# Altium integrated library Capacitor - Aluminium TH.IntLib: 4591 symbols (part 60 of 68)
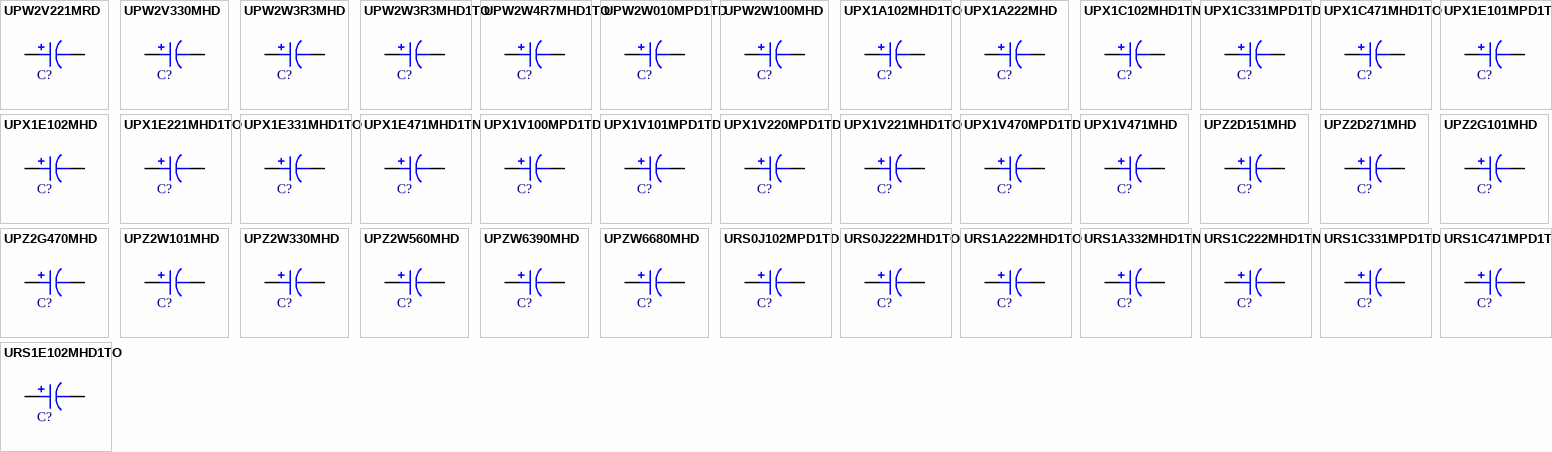
[diagram p173: symbols UPW2V221MRD to URS1E102MHD1TO]

## UPZ2W330MHD
designator C?, comment 33uF  (value not drawn)
CAP ALUM 33UF 20% 450V RADIAL; Part Number: UPZ2W330MHD; Manufacturer: Nichicon; TemperatureRange: -25C ~ 105C; Ripple Current: 280mA; Value: 33uF; PartId: 24367; Supplier 1: Digi-Key; Supplier Part Number 1: 493-11279-ND; ComponentLink1Description: Datasheet; ComponentLink1URL: http://nichicon-us.com/english/products/pdfs/e-upz.pdf; ComponentLink2Description: Digi-Key Listing; ComponentLink2URL: https://www.digikey.com/product-detail/en/nichicon/UPZ2W330MHD/493-11279-ND/4319344; Tolerance: 20%; Voltage: 450V; Price: 1.57; Device Package: Radial, Can, 12.5mm
footprint CAP AL TH D12.5 L5 H35.5
pins: 1, 2

## UPZ2W560MHD
designator C?, comment 56uF  (value not drawn)
CAP ALUM 56UF 20% 450V RADIAL; Part Number: UPZ2W560MHD; Manufacturer: Nichicon; TemperatureRange: -25C ~ 105C; Type: Polar; Ripple Current: 440mA @ 120Hz; Value: 56uF; PartId: 27221; Supplier 1: Digi-Key; Supplier Part Number 1: 493-4730-ND; ComponentLink1Description: Datasheet; ComponentLink1URL: http://nichicon-us.com/english/products/pdfs/e-upz.pdf; ComponentLink2Description: Digi-Key Listing; ComponentLink2URL: https://www.digikey.com/product-detail/en/nichicon/UPZ2W560MHD/493-4730-ND/3125541; Tolerance: 20%; Voltage: 450V; Price: 2.33; Device Package: Radial, Can, 16mm
footprint CAP AL TH D16 L7.5 H33.5
pins: 1, 2

## UPZW6390MHD
designator C?, comment 39uF  (value not drawn)
CAP ALUM 39UF 20% 420V RADIAL; Part Number: UPZW6390MHD; Manufacturer: Nichicon; TemperatureRange: -25C ~ 105C; Type: Polar; Ripple Current: 310mA @ 120Hz; Value: 39uF; PartId: 24399; Supplier 1: Digi-Key; Supplier Part Number 1: 493-4732-ND; ComponentLink1Description: Datasheet; ComponentLink1URL: http://nichicon-us.com/english/products/pdfs/e-upz.pdf; ComponentLink2Description: Digi-Key Listing; ComponentLink2URL: https://www.digikey.com/product-detail/en/nichicon/UPZW6390MHD/493-4732-ND/3125544; Tolerance: 20%; Voltage: 420V; Price: 1.84; Device Package: Radial, Can, 12.5mm
footprint CAP AL TH D12.5 L5 H35.5
pins: 1, 2

## UPZW6680MHD
designator C?, comment 68uF  (value not drawn)
CAP ALUM 68UF 20% 420V RADIAL; Part Number: UPZW6680MHD; Manufacturer: Nichicon; TemperatureRange: -25C ~ 105C; Ripple Current: 510mA; Value: 68uF; PartId: 27213; Supplier 1: Digi-Key; Supplier Part Number 1: 493-11292-ND; ComponentLink1Description: Datasheet; ComponentLink1URL: http://nichicon-us.com/english/products/pdfs/e-upz.pdf; ComponentLink2Description: Digi-Key Listing; ComponentLink2URL: https://www.digikey.com/product-detail/en/nichicon/UPZW6680MHD/493-11292-ND/4319357; Tolerance: 20%; Voltage: 420V; Price: 2.28; Device Package: Radial, Can, 16mm
footprint CAP AL TH D16 L7.5 H33.5
pins: 1, 2

## URS0J102MPD1TD
designator C?, comment 1000uF  (value not drawn)
CAP ALUM 1000UF 20% 6.3V RADIAL; Part Number: URS0J102MPD1TD; Manufacturer: Nichicon; TemperatureRange: -40C ~ 85C; Type: Polar; Ripple Current: 510mA @ 120Hz; Value: 1000uF; PartId: 24435; Supplier 1: Digi-Key; Supplier Part Number 1: 493-11775-3-ND; ComponentLink1Description: Datasheet; ComponentLink1URL: http://nichicon-us.com/english/products/pdfs/e-urs.pdf; ComponentLink2Description: Digi-Key Listing; ComponentLink2URL: https://www.digikey.com/product-detail/en/nichicon/URS0J102MPD1TD/493-11775-3-ND/4320918; Tolerance: 20%; Voltage: 6.3V; Price: 0.1456; Device Package: Radial, Can, 10mm
footprint CAP AL TH D10 L5 H12.5
pins: 1, 2

## URS0J222MHD1TO
designator C?, comment 2200uF  (value not drawn)
CAP ALUM 2200UF 20% 6.3V RADIAL; Part Number: URS0J222MHD1TO; Manufacturer: Nichicon; TemperatureRange: -40C ~ 85C; Type: Polar; Ripple Current: 890mA @ 120Hz; Value: 2200uF; PartId: 22731; Supplier 1: Digi-Key; Supplier Part Number 1: 493-11974-1-ND; ComponentLink1Description: Datasheet; ComponentLink1URL: http://nichicon-us.com/english/products/pdfs/e-urs.pdf; ComponentLink2Description: Digi-Key Listing; ComponentLink2URL: https://www.digikey.com/product-detail/en/nichicon/URS0J222MHD1TO/493-11974-1-ND/4320164; Tolerance: 20%; Voltage: 6.3V; Price: 0; Device Package: Radial, Can, 12.5mm
footprint CAP AL TH D12.5 L5 H16.5
pins: 1, 2

## URS1A222MHD1TO
designator C?, comment 2200uF  (value not drawn)
CAP ALUM 2200UF 20% 10V RADIAL; Part Number: URS1A222MHD1TO; Manufacturer: Nichicon; TemperatureRange: -40C ~ 85C; Type: Polar; Ripple Current: 960mA @ 120Hz; Value: 2200uF; PartId: 22729; Supplier 1: Digi-Key; Supplier Part Number 1: 493-11966-1-ND; ComponentLink1Description: Datasheet; ComponentLink1URL: http://nichicon-us.com/english/products/pdfs/e-urs.pdf; ComponentLink2Description: Digi-Key Listing; ComponentLink2URL: https://www.digikey.com/product-detail/en/nichicon/URS1A222MHD1TO/493-11966-1-ND/4320177; Tolerance: 20%; Voltage: 10V; Price: 0; Device Package: Radial, Can, 12.5mm
footprint CAP AL TH D12.5 L5 H16.5
pins: 1, 2

## URS1A332MHD1TN
designator C?, comment 3300uF  (value not drawn)
CAP ALUM 3300UF 20% 10V RADIAL; Part Number: URS1A332MHD1TN; Manufacturer: Nichicon; TemperatureRange: -40C ~ 85C; Type: Polar; Ripple Current: 1.3A @ 120Hz; Value: 3300uF; PartId: 26231; Supplier 1: Digi-Key; Supplier Part Number 1: 493-12068-3-ND; ComponentLink1Description: Datasheet; ComponentLink1URL: http://nichicon-us.com/english/products/pdfs/e-urs.pdf; ComponentLink2Description: Digi-Key Listing; ComponentLink2URL: https://www.digikey.com/product-detail/en/nichicon/URS1A332MHD1TN/493-12068-3-ND/4321211; Tolerance: 20%; Voltage: 10V; Price: 0.3894; Device Package: Radial, Can, 16mm
footprint CAP AL TH D16 L7.5 H16.5
pins: 1, 2

## URS1C222MHD1TN
designator C?, comment 2200uF  (value not drawn)
CAP ALUM 2200UF 20% 16V RADIAL; Part Number: URS1C222MHD1TN; Manufacturer: Nichicon; TemperatureRange: -40C ~ 85C; Type: Polar; Ripple Current: 1.16A @ 120Hz; Value: 2200uF; PartId: 26236; Supplier 1: Digi-Key; Supplier Part Number 1: 493-12115-3-ND; ComponentLink1Description: Datasheet; ComponentLink1URL: http://nichicon-us.com/english/products/pdfs/e-urs.pdf; ComponentLink2Description: Digi-Key Listing; ComponentLink2URL: https://www.digikey.com/product-detail/en/nichicon/URS1C222MHD1TN/493-12115-3-ND/4321258; Tolerance: 20%; Voltage: 16V; Price: 0.4338; Device Package: Radial, Can, 16mm
footprint CAP AL TH D16 L7.5 H16.5
pins: 1, 2

## URS1C331MPD1TD
designator C?, comment 330uF  (value not drawn)
CAP ALUM 330UF 20% 16V RADIAL; Part Number: URS1C331MPD1TD; Manufacturer: Nichicon; TemperatureRange: -40C ~ 85C; Type: Polar; Ripple Current: 360mA @ 120Hz; Value: 330uF; PartId: 24432; Supplier 1: Digi-Key; Supplier Part Number 1: 493-11676-3-ND; ComponentLink1Description: Datasheet; ComponentLink1URL: http://nichicon-us.com/english/products/pdfs/e-urs.pdf; ComponentLink2Description: Digi-Key Listing; ComponentLink2URL: https://www.digikey.com/product-detail/en/nichicon/URS1C331MPD1TD/493-11676-3-ND/4320819; Tolerance: 20%; Voltage: 16V; Price: 0.1289; Device Package: Radial, Can, 10mm
footprint CAP AL TH D10 L5 H12.5
pins: 1, 2

## URS1C471MPD1TD
designator C?, comment 470uF  (value not drawn)
CAP ALUM 470UF 20% 16V RADIAL; Part Number: URS1C471MPD1TD; Manufacturer: Nichicon; TemperatureRange: -40C ~ 85C; Type: Polar; Ripple Current: 410mA @ 120Hz; Value: 470uF; PartId: 24434; Supplier 1: Digi-Key; Supplier Part Number 1: 493-11709-3-ND; ComponentLink1Description: Datasheet; ComponentLink1URL: http://nichicon-us.com/english/products/pdfs/e-urs.pdf; ComponentLink2Description: Digi-Key Listing; ComponentLink2URL: https://www.digikey.com/product-detail/en/nichicon/URS1C471MPD1TD/493-11709-3-ND/4320852; Tolerance: 20%; Voltage: 16V; Price: 0.1415; Device Package: Radial, Can, 10mm
footprint CAP AL TH D10 L5 H12.5
pins: 1, 2

## URS1E102MHD1TO
designator C?, comment 1000uF  (value not drawn)
CAP ALUM 1000UF 20% 25V RADIAL; Part Number: URS1E102MHD1TO; Manufacturer: Nichicon; TemperatureRange: -40C ~ 85C; Type: Polar; Ripple Current: 830mA @ 120Hz; Value: 1000uF; PartId: 22728; Supplier 1: Digi-Key; Supplier Part Number 1: 493-11967-1-ND; ComponentLink1Description: Datasheet; ComponentLink1URL: http://nichicon-us.com/english/products/pdfs/e-urs.pdf; ComponentLink2Description: Digi-Key Listing; ComponentLink2URL: https://www.digikey.com/product-detail/en/nichicon/URS1E102MHD1TO/493-11967-1-ND/4320200; Tolerance: 20%; Voltage: 25V; Price: 0; Device Package: Radial, Can, 12.5mm
footprint CAP AL TH D12.5 L5 H16.5
pins: 1, 2

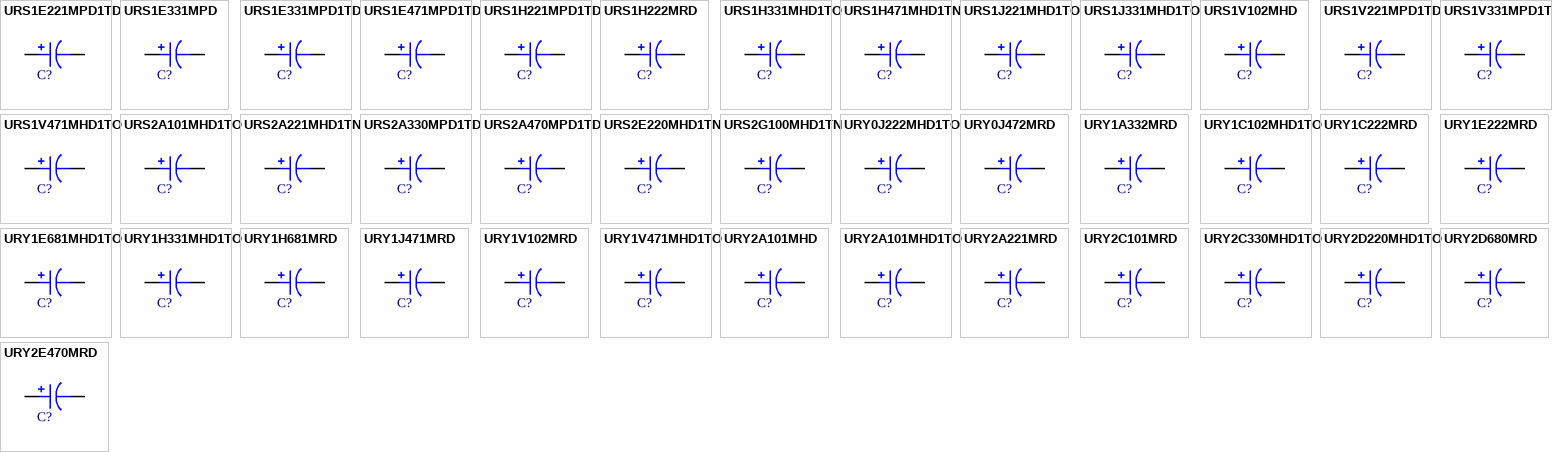
[diagram p100: symbols URS1E221MPD1TD to URY2E470MRD]

## URS1E221MPD1TD
designator C?, comment 220uF  (value not drawn)
CAP ALUM 220UF 20% 25V RADIAL; Part Number: URS1E221MPD1TD; Manufacturer: Nichicon; TemperatureRange: -40C ~ 85C; Type: Polar; Ripple Current: 310mA @ 120Hz; Value: 220uF; PartId: 24433; Supplier 1: Digi-Key; Supplier Part Number 1: 493-11677-3-ND; ComponentLink1Description: Datasheet; ComponentLink1URL: http://nichicon-us.com/english/products/pdfs/e-urs.pdf; ComponentLink2Description: Digi-Key Listing; ComponentLink2URL: https://www.digikey.com/product-detail/en/nichicon/URS1E221MPD1TD/493-11677-3-ND/4320820; Tolerance: 20%; Voltage: 25V; Price: 0.1289; Device Package: Radial, Can, 10mm
footprint CAP AL TH D10 L5 H12.5
pins: 1, 2

## URS1E331MPD
designator C?, comment 330uF  (value not drawn)
CAP ALUM 330UF 20% 25V RADIAL; Part Number: URS1E331MPD; Manufacturer: Nichicon; TemperatureRange: -40C ~ 85C; Type: Polar; Ripple Current: 380mA @ 120Hz; Value: 330uF; PartId: 24451; Supplier 1: Digi-Key; Supplier Part Number 1: URS1E331MPD-ND; ComponentLink1Description: Datasheet; ComponentLink1URL: http://nichicon-us.com/english/products/pdfs/e-urs.pdf; ComponentLink2Description: Digi-Key Listing; ComponentLink2URL: https://www.digikey.com/product-detail/en/nichicon/URS1E331MPD/URS1E331MPD-ND/2428062; Tolerance: 20%; Voltage: 25V; Price: 0.43; Device Package: Radial, Can, 10mm
footprint CAP AL TH D10 L5 H12.5
pins: 1, 2

## URS1E331MPD1TD
designator C?, comment 330uF  (value not drawn)
CAP ALUM 330UF 20% 25V RADIAL; Part Number: URS1E331MPD1TD; Manufacturer: Nichicon; TemperatureRange: -40C ~ 85C; Type: Polar; Ripple Current: 380mA @ 120Hz; Value: 330uF; PartId: 24436; Supplier 1: Digi-Key; Supplier Part Number 1: 493-11781-3-ND; ComponentLink1Description: Datasheet; ComponentLink1URL: http://nichicon-us.com/english/products/pdfs/e-urs.pdf; ComponentLink2Description: Digi-Key Listing; ComponentLink2URL: https://www.digikey.com/product-detail/en/nichicon/URS1E331MPD1TD/493-11781-3-ND/4320924; Tolerance: 20%; Voltage: 25V; Price: 0.1468; Device Package: Radial, Can, 10mm
footprint CAP AL TH D10 L5 H12.5
pins: 1, 2

## URS1E471MPD1TD
designator C?, comment 470uF  (value not drawn)
CAP ALUM 470UF 20% 25V RADIAL; Part Number: URS1E471MPD1TD; Manufacturer: Nichicon; TemperatureRange: -40C ~ 85C; Type: Polar; Ripple Current: 530mA @ 120Hz; Value: 470uF; PartId: 24982; Supplier 1: Digi-Key; Supplier Part Number 1: 493-11841-1-ND; ComponentLink1Description: Datasheet; ComponentLink1URL: http://nichicon-us.com/english/products/pdfs/e-urs.pdf; ComponentLink2Description: Digi-Key Listing; ComponentLink2URL: https://www.digikey.com/product-detail/en/nichicon/URS1E471MPD1TD/493-11841-1-ND/4320208; Tolerance: 20%; Voltage: 25V; Price: 0.54; Device Package: Radial, Can, 10mm
footprint CAP AL TH D10 L5 H14.5
pins: 1, 2

## URS1H221MPD1TD
designator C?, comment 220uF  (value not drawn)
CAP ALUM 220UF 20% 50V RADIAL; Part Number: URS1H221MPD1TD; Manufacturer: Nichicon; TemperatureRange: -40C ~ 85C; Type: Polar; Ripple Current: 420mA @ 120Hz; Value: 220uF; PartId: 24983; Supplier 1: Digi-Key; Supplier Part Number 1: 493-11842-1-ND; ComponentLink1Description: Datasheet; ComponentLink1URL: http://nichicon-us.com/english/products/pdfs/e-urs.pdf; ComponentLink2Description: Digi-Key Listing; ComponentLink2URL: https://www.digikey.com/product-detail/en/nichicon/URS1H221MPD1TD/493-11842-1-ND/4320217; Tolerance: 20%; Voltage: 50V; Price: 0.54; Device Package: Radial, Can, 10mm
footprint CAP AL TH D10 L5 H14.5
pins: 1, 2

## URS1H222MRD
designator C?, comment 2200uF  (value not drawn)
CAP ALUM 2200UF 20% 50V RADIAL; Part Number: URS1H222MRD; Manufacturer: Nichicon; TemperatureRange: -40C ~ 85C; Type: Polar; Ripple Current: 1.75A @ 120Hz; Value: 2200uF; PartId: 27567; Supplier 1: Digi-Key; Supplier Part Number 1: 493-7349-ND; ComponentLink1Description: Datasheet; ComponentLink1URL: http://nichicon-us.com/english/products/pdfs/e-urs.pdf; ComponentLink2Description: Digi-Key Listing; ComponentLink2URL: https://www.digikey.com/product-detail/en/nichicon/URS1H222MRD/493-7349-ND/3768599; Tolerance: 20%; Voltage: 50V; Price: 1.77; Device Package: Radial, Can, 22mm
footprint CAP AL TH D22 L10 H33
pins: 1, 2

## URS1H331MHD1TO
designator C?, comment 330uF  (value not drawn)
CAP ALUM 330UF 20% 50V RADIAL; Part Number: URS1H331MHD1TO; Manufacturer: Nichicon; TemperatureRange: -40C ~ 85C; Type: Polar; Ripple Current: 530mA @ 120Hz; Value: 330uF; PartId: 22684; Supplier 1: Digi-Key; Supplier Part Number 1: 493-11960-1-ND; ComponentLink1Description: Datasheet; ComponentLink1URL: http://nichicon-us.com/english/products/pdfs/e-urs.pdf; ComponentLink2Description: Digi-Key Listing; ComponentLink2URL: https://www.digikey.com/product-detail/en/nichicon/URS1H331MHD1TO/493-11960-1-ND/4320220; Tolerance: 20%; Voltage: 50V; Price: 0; Device Package: Radial, Can, 12.5mm
footprint CAP AL TH D12.5 L5 H14
pins: 1, 2

## URS1H471MHD1TN
designator C?, comment 470uF  (value not drawn)
CAP ALUM 470UF 20% 50V RADIAL; Part Number: URS1H471MHD1TN; Manufacturer: Nichicon; TemperatureRange: -40C ~ 85C; Type: Polar; Ripple Current: 750mA @ 120Hz; Value: 470uF; PartId: 26227; Supplier 1: Digi-Key; Supplier Part Number 1: 493-12004-3-ND; ComponentLink1Description: Datasheet; ComponentLink1URL: http://nichicon-us.com/english/products/pdfs/e-urs.pdf; ComponentLink2Description: Digi-Key Listing; ComponentLink2URL: https://www.digikey.com/product-detail/en/nichicon/URS1H471MHD1TN/493-12004-3-ND/4321147; Tolerance: 20%; Voltage: 50V; Price: 0.3161; Device Package: Radial, Can, 16mm
footprint CAP AL TH D16 L7.5 H16.5
pins: 1, 2

## URS1J221MHD1TO
designator C?, comment 220uF  (value not drawn)
CAP ALUM 220UF 20% 63V RADIAL; Part Number: URS1J221MHD1TO; Manufacturer: Nichicon; TemperatureRange: -40C ~ 85C; Type: Polar; Ripple Current: 490mA @ 120Hz; Value: 220uF; PartId: 22687; Supplier 1: Digi-Key; Supplier Part Number 1: 493-12011-1-ND; ComponentLink1Description: Datasheet; ComponentLink1URL: http://nichicon-us.com/english/products/pdfs/e-urs.pdf; ComponentLink2Description: Digi-Key Listing; ComponentLink2URL: https://www.digikey.com/product-detail/en/nichicon/URS1J221MHD1TO/493-12011-1-ND/4320231; Tolerance: 20%; Voltage: 63V; Price: 0; Device Package: Radial, Can, 12.5mm
footprint CAP AL TH D12.5 L5 H14
pins: 1, 2

## URS1J331MHD1TO
designator C?, comment 330uF  (value not drawn)
CAP ALUM 330UF 20% 63V RADIAL; Part Number: URS1J331MHD1TO; Manufacturer: Nichicon; TemperatureRange: -40C ~ 85C; Type: Polar; Ripple Current: 710mA @ 120Hz; Value: 330uF; PartId: 22755; Supplier 1: Digi-Key; Supplier Part Number 1: 493-12027-1-ND; ComponentLink1Description: Datasheet; ComponentLink1URL: http://nichicon-us.com/english/products/pdfs/e-urs.pdf; ComponentLink2Description: Digi-Key Listing; ComponentLink2URL: https://www.digikey.com/product-detail/en/nichicon/URS1J331MHD1TO/493-12027-1-ND/4320233; Tolerance: 20%; Voltage: 63V; Price: 0; Device Package: Radial, Can, 12.5mm
footprint CAP AL TH D12.5 L5 H16.5
pins: 1, 2

## URS1V102MHD
designator C?, comment 1000uF  (value not drawn)
CAP ALUM 1000UF 20% 35V RADIAL; Part Number: URS1V102MHD; Manufacturer: Nichicon; TemperatureRange: -40C ~ 85C; Type: Polar; Ripple Current: 1.01A @ 120Hz; Value: 1000uF; PartId: 26208; Supplier 1: Digi-Key; Supplier Part Number 1: URS1V102MHD-ND; ComponentLink1Description: Datasheet; ComponentLink1URL: http://nichicon-us.com/english/products/pdfs/e-urs.pdf; ComponentLink2Description: Digi-Key Listing; ComponentLink2URL: https://www.digikey.com/product-detail/en/nichicon/URS1V102MHD/URS1V102MHD-ND/2428061; Tolerance: 20%; Voltage: 35V; Price: 0.79; Device Package: Radial, Can, 16mm
footprint CAP AL TH D16 L7.5 H16.5
pins: 1, 2

## URS1V221MPD1TD
designator C?, comment 220uF  (value not drawn)
CAP ALUM 220UF 20% 35V RADIAL; Part Number: URS1V221MPD1TD; Manufacturer: Nichicon; TemperatureRange: -40C ~ 85C; Type: Polar; Ripple Current: 340mA @ 120Hz; Value: 220uF; PartId: 24437; Supplier 1: Digi-Key; Supplier Part Number 1: 493-11792-3-ND; ComponentLink1Description: Datasheet; ComponentLink1URL: http://nichicon-us.com/english/products/pdfs/e-urs.pdf; ComponentLink2Description: Digi-Key Listing; ComponentLink2URL: https://www.digikey.com/product-detail/en/nichicon/URS1V221MPD1TD/493-11792-3-ND/4320935; Tolerance: 20%; Voltage: 35V; Price: 0.1472; Device Package: Radial, Can, 10mm
footprint CAP AL TH D10 L5 H12.5
pins: 1, 2

## URS1V331MPD1TD
designator C?, comment 330uF  (value not drawn)
CAP ALUM 330UF 20% 35V RADIAL; Part Number: URS1V331MPD1TD; Manufacturer: Nichicon; TemperatureRange: -40C ~ 85C; Type: Polar; Ripple Current: 480mA @ 120Hz; Value: 330uF; PartId: 24984; Supplier 1: Digi-Key; Supplier Part Number 1: 493-11843-1-ND; ComponentLink1Description: Datasheet; ComponentLink1URL: http://nichicon-us.com/english/products/pdfs/e-urs.pdf; ComponentLink2Description: Digi-Key Listing; ComponentLink2URL: https://www.digikey.com/product-detail/en/nichicon/URS1V331MPD1TD/493-11843-1-ND/4320243; Tolerance: 20%; Voltage: 35V; Price: 0.54; Device Package: Radial, Can, 10mm
footprint CAP AL TH D10 L5 H14.5
pins: 1, 2

## URS1V471MHD1TO
designator C?, comment 470uF  (value not drawn)
CAP ALUM 470UF 20% 35V RADIAL; Part Number: URS1V471MHD1TO; Manufacturer: Nichicon; TemperatureRange: -40C ~ 85C; Type: Polar; Ripple Current: 590mA @ 120Hz; Value: 470uF; PartId: 22689; Supplier 1: Digi-Key; Supplier Part Number 1: 493-12064-1-ND; ComponentLink1Description: Datasheet; ComponentLink1URL: http://nichicon-us.com/english/products/pdfs/e-urs.pdf; ComponentLink2Description: Digi-Key Listing; ComponentLink2URL: https://www.digikey.com/product-detail/en/nichicon/URS1V471MHD1TO/493-12064-1-ND/4320245; Tolerance: 20%; Voltage: 35V; Price: 0; Device Package: Radial, Can, 12.5mm
footprint CAP AL TH D12.5 L5 H14
pins: 1, 2

## URS2A101MHD1TO
designator C?, comment 100uF  (value not drawn)
CAP ALUM 100UF 20% 100V RADIAL; Part Number: URS2A101MHD1TO; Manufacturer: Nichicon; TemperatureRange: -40C ~ 85C; Type: Polar; Ripple Current: 250mA @ 120Hz; Value: 100uF; PartId: 22751; Supplier 1: Digi-Key; Supplier Part Number 1: 493-12017-1-ND; ComponentLink1Description: Datasheet; ComponentLink1URL: http://nichicon-us.com/english/products/pdfs/e-urs.pdf; ComponentLink2Description: Digi-Key Listing; ComponentLink2URL: https://www.digikey.com/product-detail/en/nichicon/URS2A101MHD1TO/493-12017-1-ND/4320250; Tolerance: 20%; Voltage: 100V; Price: 0; Device Package: Radial, Can, 12.5mm
footprint CAP AL TH D12.5 L5 H16.5
pins: 1, 2

## URS2A221MHD1TN
designator C?, comment 220uF  (value not drawn)
CAP ALUM 220UF 20% 100V RADIAL; Part Number: URS2A221MHD1TN; Manufacturer: Nichicon; TemperatureRange: -40C ~ 85C; Type: Polar; Ripple Current: 620mA @ 120Hz; Value: 220uF; PartId: 26244; Supplier 1: Digi-Key; Supplier Part Number 1: 493-12163-3-ND; ComponentLink1Description: Datasheet; ComponentLink1URL: http://nichicon-us.com/english/products/pdfs/e-urs.pdf; ComponentLink2Description: Digi-Key Listing; ComponentLink2URL: https://www.digikey.com/product-detail/en/nichicon/URS2A221MHD1TN/493-12163-3-ND/4321306; Tolerance: 20%; Voltage: 100V; Price: 0.5004; Device Package: Radial, Can, 16mm
footprint CAP AL TH D16 L7.5 H16.5
pins: 1, 2

## URS2A330MPD1TD
designator C?, comment 33uF  (value not drawn)
CAP ALUM 33UF 20% 100V RADIAL; Part Number: URS2A330MPD1TD; Manufacturer: Nichicon; TemperatureRange: -40C ~ 85C; Type: Polar; Ripple Current: 180mA @ 120Hz; Value: 33uF; PartId: 24464; Supplier 1: Digi-Key; Supplier Part Number 1: 493-11840-1-ND; ComponentLink1Description: Datasheet; ComponentLink1URL: http://nichicon-us.com/english/products/pdfs/e-urs.pdf; ComponentLink2Description: Digi-Key Listing; ComponentLink2URL: https://www.digikey.com/product-detail/en/nichicon/URS2A330MPD1TD/493-11840-1-ND/4320254; Tolerance: 20%; Voltage: 100V; Price: 0.53; Device Package: Radial, Can, 10mm
footprint CAP AL TH D10 L5 H12.5
pins: 1, 2

## URS2A470MPD1TD
designator C?, comment 47uF  (value not drawn)
CAP ALUM 47UF 20% 100V RADIAL; Part Number: URS2A470MPD1TD; Manufacturer: Nichicon; TemperatureRange: -40C ~ 85C; Type: Polar; Ripple Current: 230mA @ 120Hz; Value: 47uF; PartId: 24735; Supplier 1: Digi-Key; Supplier Part Number 1: 493-11707-1-ND; ComponentLink1Description: Datasheet; ComponentLink1URL: http://nichicon-us.com/english/products/pdfs/e-urs.pdf; ComponentLink2Description: Digi-Key Listing; ComponentLink2URL: https://www.digikey.com/product-detail/en/nichicon/URS2A470MPD1TD/493-11707-1-ND/4320257; Tolerance: 20%; Voltage: 100V; Price: 0.41; Device Package: Radial, Can, 10mm
footprint CAP AL TH D10 L5 H14.5
pins: 1, 2

## URS2E220MHD1TN
designator C?, comment 22uF  (value not drawn)
CAP ALUM 22UF 20% 250V RADIAL; Part Number: URS2E220MHD1TN; Manufacturer: Nichicon; TemperatureRange: -40C ~ 85C; Type: Polar; Ripple Current: 280mA @ 120Hz; Value: 22uF; PartId: 26226; Supplier 1: Digi-Key; Supplier Part Number 1: 493-11984-3-ND; ComponentLink1Description: Datasheet; ComponentLink1URL: http://nichicon-us.com/english/products/pdfs/e-urs.pdf; ComponentLink2Description: Digi-Key Listing; ComponentLink2URL: https://www.digikey.com/product-detail/en/nichicon/URS2E220MHD1TN/493-11984-3-ND/4321127; Tolerance: 20%; Voltage: 250V; Price: 0.2919; Device Package: Radial, Can, 16mm
footprint CAP AL TH D16 L7.5 H16.5
pins: 1, 2

## URS2G100MHD1TN
designator C?, comment 10uF  (value not drawn)
CAP ALUM 10UF 20% 400V RADIAL; Part Number: URS2G100MHD1TN; Manufacturer: Nichicon; TemperatureRange: -40C ~ 85C; Type: Polar; Ripple Current: 140mA @ 120Hz; Value: 10uF; PartId: 26228; Supplier 1: Digi-Key; Supplier Part Number 1: 493-12007-3-ND; ComponentLink1Description: Datasheet; ComponentLink1URL: http://nichicon-us.com/english/products/pdfs/e-urs.pdf; ComponentLink2Description: Digi-Key Listing; ComponentLink2URL: https://www.digikey.com/product-detail/en/nichicon/URS2G100MHD1TN/493-12007-3-ND/4321150; Tolerance: 20%; Voltage: 400V; Price: 0.3198; Device Package: Radial, Can, 16mm
footprint CAP AL TH D16 L7.5 H16.5
pins: 1, 2

## URY0J222MHD1TO
designator C?, comment 2200uF  (value not drawn)
CAP ALUM 2200UF 20% 6.3V RADIAL; Part Number: URY0J222MHD1TO; Manufacturer: Nichicon; TemperatureRange: -55C ~ 105C; Type: Polar; Ripple Current: 580mA @ 120Hz; Value: 2200uF; PartId: 22693; Supplier 1: Digi-Key; Supplier Part Number 1: 493-12119-1-ND; ComponentLink1Description: Datasheet; ComponentLink1URL: http://nichicon-us.com/english/products/pdfs/e-ury.pdf; ComponentLink2Description: Digi-Key Listing; ComponentLink2URL: https://www.digikey.com/product-detail/en/nichicon/URY0J222MHD1TO/493-12119-1-ND/4320309; Tolerance: 20%; Voltage: 6.3V; Price: 0; Device Package: Radial, Can, 12.5mm
footprint CAP AL TH D12.5 L5 H14
pins: 1, 2

## URY0J472MRD
designator C?, comment 4700uF  (value not drawn)
CAP ALUM 4700UF 20% 6.3V RADIAL; Part Number: URY0J472MRD; Manufacturer: Nichicon; TemperatureRange: -55C ~ 105C; Ripple Current: 1.2A; Value: 4700uF; PartId: 27467; Supplier 1: Digi-Key; Supplier Part Number 1: 493-11245-ND; ComponentLink1Description: Datasheet; ComponentLink1URL: http://nichicon-us.com/english/products/pdfs/e-ury.pdf; ComponentLink2Description: Digi-Key Listing; ComponentLink2URL: https://www.digikey.com/product-detail/en/nichicon/URY0J472MRD/493-11245-ND/2538877; Tolerance: 20%; Voltage: 6.3V; Price: 1.9; Device Package: Radial, Can, 25mm
footprint CAP AL TH D25 L12.5 H14.5
pins: 1, 2

## URY1A332MRD
designator C?, comment 3300uF  (value not drawn)
CAP ALUM 3300UF 20% 10V RADIAL; Part Number: URY1A332MRD; Manufacturer: Nichicon; TemperatureRange: -55C ~ 105C; Ripple Current: 1.03A; Value: 3300uF; PartId: 27561; Supplier 1: Digi-Key; Supplier Part Number 1: 493-11246-ND; ComponentLink1Description: Datasheet; ComponentLink1URL: http://nichicon-us.com/english/products/pdfs/e-ury.pdf; ComponentLink2Description: Digi-Key Listing; ComponentLink2URL: https://www.digikey.com/product-detail/en/nichicon/URY1A332MRD/493-11246-ND/2538879; Tolerance: 20%; Voltage: 10V; Price: 1.73; Device Package: Radial, Can, 22mm
footprint CAP AL TH D22 L10 H14.5
pins: 1, 2

## URY1C102MHD1TO
designator C?, comment 1000uF  (value not drawn)
CAP ALUM 1000UF 20% 16V RADIAL; Part Number: URY1C102MHD1TO; Manufacturer: Nichicon; TemperatureRange: -55C ~ 105C; Type: Polar; Ripple Current: 520mA @ 120Hz; Value: 1000uF; PartId: 22699; Supplier 1: Digi-Key; Supplier Part Number 1: 493-12143-1-ND; ComponentLink1Description: Datasheet; ComponentLink1URL: http://nichicon-us.com/english/products/pdfs/e-ury.pdf; ComponentLink2Description: Digi-Key Listing; ComponentLink2URL: https://www.digikey.com/product-detail/en/nichicon/URY1C102MHD1TO/493-12143-1-ND/4320312; Tolerance: 20%; Voltage: 16V; Price: 0; Device Package: Radial, Can, 12.5mm
footprint CAP AL TH D12.5 L5 H14
pins: 1, 2

## URY1C222MRD
designator C?, comment 2200uF  (value not drawn)
CAP ALUM 2200UF 20% 16V RADIAL; Part Number: URY1C222MRD; Manufacturer: Nichicon; TemperatureRange: -55C ~ 105C; Ripple Current: 1A; Value: 2200uF; PartId: 27464; Supplier 1: Digi-Key; Supplier Part Number 1: 493-11247-ND; ComponentLink1Description: Datasheet; ComponentLink1URL: http://nichicon-us.com/english/products/pdfs/e-ury.pdf; ComponentLink2Description: Digi-Key Listing; ComponentLink2URL: https://www.digikey.com/product-detail/en/nichicon/URY1C222MRD/493-11247-ND/2538881; Tolerance: 20%; Voltage: 16V; Price: 1.9; Device Package: Radial, Can, 25mm
footprint CAP AL TH D25 L12.5 H14.5
pins: 1, 2

## URY1E222MRD
designator C?, comment 2200uF  (value not drawn)
CAP ALUM 2200UF 20% 25V RADIAL; Part Number: URY1E222MRD; Manufacturer: Nichicon; TemperatureRange: -55C ~ 105C; Ripple Current: 1.17A; Value: 2200uF; PartId: 27465; Supplier 1: Digi-Key; Supplier Part Number 1: 493-11248-ND; ComponentLink1Description: Datasheet; ComponentLink1URL: http://nichicon-us.com/english/products/pdfs/e-ury.pdf; ComponentLink2Description: Digi-Key Listing; ComponentLink2URL: https://www.digikey.com/product-detail/en/nichicon/URY1E222MRD/493-11248-ND/2538883; Tolerance: 20%; Voltage: 25V; Price: 2; Device Package: Radial, Can, 25mm
footprint CAP AL TH D25 L12.5 H14.5
pins: 1, 2

## URY1E681MHD1TO
designator C?, comment 680uF  (value not drawn)
CAP ALUM 680UF 20% 25V RADIAL; Part Number: URY1E681MHD1TO; Manufacturer: Nichicon; TemperatureRange: -55C ~ 105C; Type: Polar; Ripple Current: 500mA @ 120Hz; Value: 680uF; PartId: 22695; Supplier 1: Digi-Key; Supplier Part Number 1: 493-12120-1-ND; ComponentLink1Description: Datasheet; ComponentLink1URL: http://nichicon-us.com/english/products/pdfs/e-ury.pdf; ComponentLink2Description: Digi-Key Listing; ComponentLink2URL: https://www.digikey.com/product-detail/en/nichicon/URY1E681MHD1TO/493-12120-1-ND/4320314; Tolerance: 20%; Voltage: 25V; Price: 0; Device Package: Radial, Can, 12.5mm
footprint CAP AL TH D12.5 L5 H14
pins: 1, 2

## URY1H331MHD1TO
designator C?, comment 330uF  (value not drawn)
CAP ALUM 330UF 20% 50V RADIAL; Part Number: URY1H331MHD1TO; Manufacturer: Nichicon; TemperatureRange: -55C ~ 105C; Type: Polar; Ripple Current: 450mA @ 120Hz; Value: 330uF; PartId: 22698; Supplier 1: Digi-Key; Supplier Part Number 1: 493-12144-1-ND; ComponentLink1Description: Datasheet; ComponentLink1URL: http://nichicon-us.com/english/products/pdfs/e-ury.pdf; ComponentLink2Description: Digi-Key Listing; ComponentLink2URL: https://www.digikey.com/product-detail/en/nichicon/URY1H331MHD1TO/493-12144-1-ND/4320315; Tolerance: 20%; Voltage: 50V; Price: 0; Device Package: Radial, Can, 12.5mm
footprint CAP AL TH D12.5 L5 H14
pins: 1, 2

## URY1H681MRD
designator C?, comment 680uF  (value not drawn)
CAP ALUM 680UF 20% 50V RADIAL; Part Number: URY1H681MRD; Manufacturer: Nichicon; TemperatureRange: -55C ~ 105C; Ripple Current: 700mA; Value: 680uF; PartId: 27468; Supplier 1: Digi-Key; Supplier Part Number 1: 493-11250-ND; ComponentLink1Description: Datasheet; ComponentLink1URL: http://nichicon-us.com/english/products/pdfs/e-ury.pdf; ComponentLink2Description: Digi-Key Listing; ComponentLink2URL: https://www.digikey.com/product-detail/en/nichicon/URY1H681MRD/493-11250-ND/2538887; Tolerance: 20%; Voltage: 50V; Price: 1.9; Device Package: Radial, Can, 25mm
footprint CAP AL TH D25 L12.5 H14.5
pins: 1, 2

## URY1J471MRD
designator C?, comment 470uF  (value not drawn)
CAP ALUM 470UF 20% 63V RADIAL; Part Number: URY1J471MRD; Manufacturer: Nichicon; TemperatureRange: -55C ~ 105C; Ripple Current: 610mA; Value: 470uF; PartId: 27559; Supplier 1: Digi-Key; Supplier Part Number 1: 493-11251-ND; ComponentLink1Description: Datasheet; ComponentLink1URL: http://nichicon-us.com/english/products/pdfs/e-ury.pdf; ComponentLink2Description: Digi-Key Listing; ComponentLink2URL: https://www.digikey.com/product-detail/en/nichicon/URY1J471MRD/493-11251-ND/2538890; Tolerance: 20%; Voltage: 63V; Price: 1.81; Device Package: Radial, Can, 22mm
footprint CAP AL TH D22 L10 H14.5
pins: 1, 2

## URY1V102MRD
designator C?, comment 1000uF  (value not drawn)
CAP ALUM 1000UF 20% 35V RADIAL; Part Number: URY1V102MRD; Manufacturer: Nichicon; TemperatureRange: -55C ~ 105C; Ripple Current: 810mA; Value: 1000uF; PartId: 27560; Supplier 1: Digi-Key; Supplier Part Number 1: 493-11252-ND; ComponentLink1Description: Datasheet; ComponentLink1URL: http://nichicon-us.com/english/products/pdfs/e-ury.pdf; ComponentLink2Description: Digi-Key Listing; ComponentLink2URL: https://www.digikey.com/product-detail/en/nichicon/URY1V102MRD/493-11252-ND/2538891; Tolerance: 20%; Voltage: 35V; Price: 1.94; Device Package: Radial, Can, 22mm
footprint CAP AL TH D22 L10 H14.5
pins: 1, 2

## URY1V471MHD1TO
designator C?, comment 470uF  (value not drawn)
CAP ALUM 470UF 20% 35V RADIAL; Part Number: URY1V471MHD1TO; Manufacturer: Nichicon; TemperatureRange: -55C ~ 105C; Type: Polar; Ripple Current: 420mA @ 120Hz; Value: 470uF; PartId: 22694; Supplier 1: Digi-Key; Supplier Part Number 1: 493-12121-1-ND; ComponentLink1Description: Datasheet; ComponentLink1URL: http://nichicon-us.com/english/products/pdfs/e-ury.pdf; ComponentLink2Description: Digi-Key Listing; ComponentLink2URL: https://www.digikey.com/product-detail/en/nichicon/URY1V471MHD1TO/493-12121-1-ND/4320318; Tolerance: 20%; Voltage: 35V; Price: 0; Device Package: Radial, Can, 12.5mm
footprint CAP AL TH D12.5 L5 H14
pins: 1, 2

## URY2A101MHD
designator C?, comment 100uF  (value not drawn)
CAP ALUM 100UF 20% 100V RADIAL; Part Number: URY2A101MHD; Manufacturer: Nichicon; TemperatureRange: -55C ~ 105C; Type: Polar; Ripple Current: 230mA @ 120Hz; Value: 100uF; PartId: 22691; Supplier 1: Digi-Key; Supplier Part Number 1: 493-14508-ND; ComponentLink1Description: Datasheet; ComponentLink1URL: http://nichicon-us.com/english/products/pdfs/e-ury.pdf; ComponentLink2Description: Digi-Key Listing; ComponentLink2URL: https://www.digikey.com/product-detail/en/nichicon/URY2A101MHD/493-14508-ND/2538894; Tolerance: 20%; Voltage: 100V; Price: 0; Device Package: Radial, Can, 12.5mm
footprint CAP AL TH D12.5 L5 H14
pins: 1, 2

## URY2A101MHD1TO
designator C?, comment 100uF  (value not drawn)
CAP ALUM 100UF 20% 100V RADIAL; Part Number: URY2A101MHD1TO; Manufacturer: Nichicon; TemperatureRange: -55C ~ 105C; Type: Polar; Ripple Current: 230mA @ 120Hz; Value: 100uF; PartId: 22697; Supplier 1: Digi-Key; Supplier Part Number 1: 493-12135-1-ND; ComponentLink1Description: Datasheet; ComponentLink1URL: http://nichicon-us.com/english/products/pdfs/e-ury.pdf; ComponentLink2Description: Digi-Key Listing; ComponentLink2URL: https://www.digikey.com/product-detail/en/nichicon/URY2A101MHD1TO/493-12135-1-ND/4320320; Tolerance: 20%; Voltage: 100V; Price: 0; Device Package: Radial, Can, 12.5mm
footprint CAP AL TH D12.5 L5 H14
pins: 1, 2

## URY2A221MRD
designator C?, comment 220uF  (value not drawn)
CAP ALUM 220UF 20% 100V RADIAL; Part Number: URY2A221MRD; Manufacturer: Nichicon; TemperatureRange: -55C ~ 105C; Ripple Current: 400mA; Value: 220uF; PartId: 27558; Supplier 1: Digi-Key; Supplier Part Number 1: 493-11284-ND; ComponentLink1Description: Datasheet; ComponentLink1URL: http://nichicon-us.com/english/products/pdfs/e-ury.pdf; ComponentLink2Description: Digi-Key Listing; ComponentLink2URL: https://www.digikey.com/product-detail/en/nichicon/URY2A221MRD/493-11284-ND/4319349; Tolerance: 20%; Voltage: 100V; Price: 1.81; Device Package: Radial, Can, 22mm
footprint CAP AL TH D22 L10 H14.5
pins: 1, 2

## URY2C101MRD
designator C?, comment 100uF  (value not drawn)
CAP ALUM 100UF 20% 160V RADIAL; Part Number: URY2C101MRD; Manufacturer: Nichicon; TemperatureRange: -40C ~ 105C; Ripple Current: 360mA; Value: 100uF; PartId: 27463; Supplier 1: Digi-Key; Supplier Part Number 1: 493-11253-ND; ComponentLink1Description: Datasheet; ComponentLink1URL: http://nichicon-us.com/english/products/pdfs/e-ury.pdf; ComponentLink2Description: Digi-Key Listing; ComponentLink2URL: https://www.digikey.com/product-detail/en/nichicon/URY2C101MRD/493-11253-ND/2538895; Tolerance: 20%; Voltage: 160V; Price: 1.9; Device Package: Radial, Can, 25mm
footprint CAP AL TH D25 L12.5 H14.5
pins: 1, 2

## URY2C330MHD1TO
designator C?, comment 33uF  (value not drawn)
CAP ALUM 33UF 20% 160V RADIAL; Part Number: URY2C330MHD1TO; Manufacturer: Nichicon; TemperatureRange: -40C ~ 105C; Type: Polar; Ripple Current: 130mA @ 120Hz; Value: 33uF; PartId: 22696; Supplier 1: Digi-Key; Supplier Part Number 1: 493-12129-1-ND; ComponentLink1Description: Datasheet; ComponentLink1URL: http://nichicon-us.com/english/products/pdfs/e-ury.pdf; ComponentLink2Description: Digi-Key Listing; ComponentLink2URL: https://www.digikey.com/product-detail/en/nichicon/URY2C330MHD1TO/493-12129-1-ND/4320321; Tolerance: 20%; Voltage: 160V; Price: 0; Device Package: Radial, Can, 12.5mm
footprint CAP AL TH D12.5 L5 H14
pins: 1, 2

## URY2D220MHD1TO
designator C?, comment 22uF  (value not drawn)
CAP ALUM 22UF 20% 200V RADIAL; Part Number: URY2D220MHD1TO; Manufacturer: Nichicon; TemperatureRange: -40C ~ 105C; Type: Polar; Ripple Current: 110mA @ 120Hz; Value: 22uF; PartId: 22700; Supplier 1: Digi-Key; Supplier Part Number 1: 493-12145-1-ND; ComponentLink1Description: Datasheet; ComponentLink1URL: http://nichicon-us.com/english/products/pdfs/e-ury.pdf; ComponentLink2Description: Digi-Key Listing; ComponentLink2URL: https://www.digikey.com/product-detail/en/nichicon/URY2D220MHD1TO/493-12145-1-ND/4320323; Tolerance: 20%; Voltage: 200V; Price: 0; Device Package: Radial, Can, 12.5mm
footprint CAP AL TH D12.5 L5 H14
pins: 1, 2

## URY2D680MRD
designator C?, comment 68uF  (value not drawn)
CAP ALUM 68UF 20% 200V RADIAL; Part Number: URY2D680MRD; Manufacturer: Nichicon; TemperatureRange: -40C ~ 105C; Ripple Current: 310mA; Value: 68uF; PartId: 27469; Supplier 1: Digi-Key; Supplier Part Number 1: 493-11254-ND; ComponentLink1Description: Datasheet; ComponentLink1URL: http://nichicon-us.com/english/products/pdfs/e-ury.pdf; ComponentLink2Description: Digi-Key Listing; ComponentLink2URL: https://www.digikey.com/product-detail/en/nichicon/URY2D680MRD/493-11254-ND/2538900; Tolerance: 20%; Voltage: 200V; Price: 1.9; Device Package: Radial, Can, 25mm
footprint CAP AL TH D25 L12.5 H14.5
pins: 1, 2

## URY2E470MRD
designator C?, comment 47uF  (value not drawn)
CAP ALUM 47UF 20% 250V RADIAL; Part Number: URY2E470MRD; Manufacturer: Nichicon; TemperatureRange: -40C ~ 105C; Ripple Current: 190mA; Value: 47uF; PartId: 27562; Supplier 1: Digi-Key; Supplier Part Number 1: 493-11255-ND; ComponentLink1Description: Datasheet; ComponentLink1URL: http://nichicon-us.com/english/products/pdfs/e-ury.pdf; ComponentLink2Description: Digi-Key Listing; ComponentLink2URL: https://www.digikey.com/product-detail/en/nichicon/URY2E470MRD/493-11255-ND/2538903; Tolerance: 20%; Voltage: 250V; Price: 1.73; Device Package: Radial, Can, 22mm
footprint CAP AL TH D22 L10 H14.5
pins: 1, 2

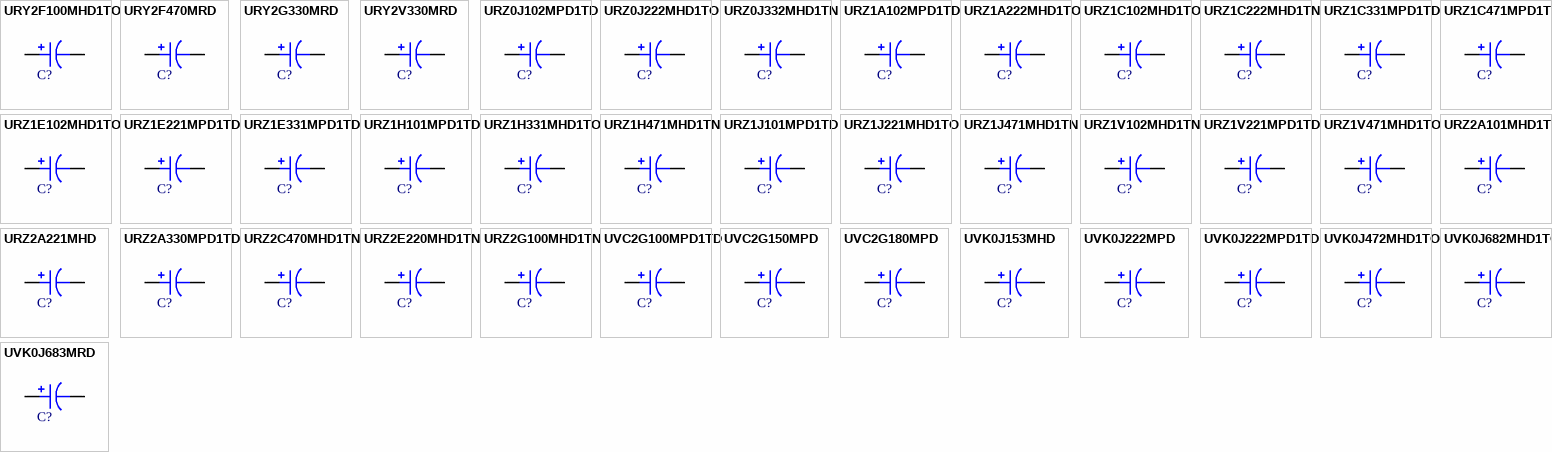
[diagram p101: symbols URY2F100MHD1TO to UVK0J683MRD]

## URY2F100MHD1TO
designator C?, comment 10uF  (value not drawn)
CAP ALUM 10UF 20% 315V RADIAL; Part Number: URY2F100MHD1TO; Manufacturer: Nichicon; TemperatureRange: -40C ~ 105C; Type: Polar; Ripple Current: 70mA @ 120Hz; Value: 10uF; PartId: 22692; Supplier 1: Digi-Key; Supplier Part Number 1: 493-12122-1-ND; ComponentLink1Description: Datasheet; ComponentLink1URL: http://nichicon-us.com/english/products/pdfs/e-ury.pdf; ComponentLink2Description: Digi-Key Listing; ComponentLink2URL: https://www.digikey.com/product-detail/en/nichicon/URY2F100MHD1TO/493-12122-1-ND/4320328; Tolerance: 20%; Voltage: 315V; Price: 0; Device Package: Radial, Can, 12.5mm
footprint CAP AL TH D12.5 L5 H14
pins: 1, 2

## URY2F470MRD
designator C?, comment 47uF  (value not drawn)
CAP ALUM 47UF 20% 315V RADIAL; Part Number: URY2F470MRD; Manufacturer: Nichicon; TemperatureRange: -40C ~ 105C; Ripple Current: 160mA; Value: 47uF; PartId: 27470; Supplier 1: Digi-Key; Supplier Part Number 1: 493-11257-ND; ComponentLink1Description: Datasheet; ComponentLink1URL: http://nichicon-us.com/english/products/pdfs/e-ury.pdf; ComponentLink2Description: Digi-Key Listing; ComponentLink2URL: https://www.digikey.com/product-detail/en/nichicon/URY2F470MRD/493-11257-ND/2538907; Tolerance: 20%; Voltage: 315V; Price: 1.9; Device Package: Radial, Can, 25mm
footprint CAP AL TH D25 L12.5 H14.5
pins: 1, 2

## URY2G330MRD
designator C?, comment 33uF  (value not drawn)
CAP ALUM 33UF 20% 400V RADIAL; Part Number: URY2G330MRD; Manufacturer: Nichicon; TemperatureRange: -40C ~ 105C; Ripple Current: 200mA; Value: 33uF; PartId: 27466; Supplier 1: Digi-Key; Supplier Part Number 1: 493-11259-ND; ComponentLink1Description: Datasheet; ComponentLink1URL: http://nichicon-us.com/english/products/pdfs/e-ury.pdf; ComponentLink2Description: Digi-Key Listing; ComponentLink2URL: https://www.digikey.com/product-detail/en/nichicon/URY2G330MRD/493-11259-ND/2538910; Tolerance: 20%; Voltage: 400V; Price: 2.42; Device Package: Radial, Can, 25mm
footprint CAP AL TH D25 L12.5 H14.5
pins: 1, 2

## URY2V330MRD
designator C?, comment 33uF  (value not drawn)
CAP ALUM 33UF 20% 350V RADIAL; Part Number: URY2V330MRD; Manufacturer: Nichicon; TemperatureRange: -40C ~ 105C; Ripple Current: 140mA; Value: 33uF; PartId: 27462; Supplier 1: Digi-Key; Supplier Part Number 1: 493-11260-ND; ComponentLink1Description: Datasheet; ComponentLink1URL: http://nichicon-us.com/english/products/pdfs/e-ury.pdf; ComponentLink2Description: Digi-Key Listing; ComponentLink2URL: https://www.digikey.com/product-detail/en/nichicon/URY2V330MRD/493-11260-ND/2538913; Tolerance: 20%; Voltage: 350V; Price: 1.9; Device Package: Radial, Can, 25mm
footprint CAP AL TH D25 L12.5 H14.5
pins: 1, 2

## URZ0J102MPD1TD
designator C?, comment 1000uF  (value not drawn)
CAP ALUM 1000UF 20% 6.3V RADIAL; Part Number: URZ0J102MPD1TD; Manufacturer: Nichicon; TemperatureRange: -55C ~ 105C; Type: Polar; Ripple Current: 370mA @ 120Hz; Value: 1000uF; PartId: 24446; Supplier 1: Digi-Key; Supplier Part Number 1: 493-11940-3-ND; ComponentLink1Description: Datasheet; ComponentLink1URL: http://nichicon-us.com/english/products/pdfs/e-urz.pdf; ComponentLink2Description: Digi-Key Listing; ComponentLink2URL: https://www.digikey.com/product-detail/en/nichicon/URZ0J102MPD1TD/493-11940-3-ND/4321083; Tolerance: 20%; Voltage: 6.3V; Price: 0.2144; Device Package: Radial, Can, 10mm
footprint CAP AL TH D10 L5 H12.5
pins: 1, 2

## URZ0J222MHD1TO
designator C?, comment 2200uF  (value not drawn)
CAP ALUM 2200UF 20% 6.3V RADIAL; Part Number: URZ0J222MHD1TO; Manufacturer: Nichicon; TemperatureRange: -55C ~ 105C; Type: Polar; Ripple Current: 635mA @ 120Hz; Value: 2200uF; PartId: 22757; Supplier 1: Digi-Key; Supplier Part Number 1: 493-12032-1-ND; ComponentLink1Description: Datasheet; ComponentLink1URL: http://nichicon-us.com/english/products/pdfs/e-urz.pdf; ComponentLink2Description: Digi-Key Listing; ComponentLink2URL: https://www.digikey.com/product-detail/en/nichicon/URZ0J222MHD1TO/493-12032-1-ND/4320338; Tolerance: 20%; Voltage: 6.3V; Price: 0; Device Package: Radial, Can, 12.5mm
footprint CAP AL TH D12.5 L5 H16.5
pins: 1, 2

## URZ0J332MHD1TN
designator C?, comment 3300uF  (value not drawn)
CAP ALUM 3300UF 20% 6.3V RADIAL; Part Number: URZ0J332MHD1TN; Manufacturer: Nichicon; TemperatureRange: -55C ~ 105C; Type: Polar; Ripple Current: 860mA @ 120Hz; Value: 3300uF; PartId: 26232; Supplier 1: Digi-Key; Supplier Part Number 1: 493-12072-3-ND; ComponentLink1Description: Datasheet; ComponentLink1URL: http://nichicon-us.com/english/products/pdfs/e-urz.pdf; ComponentLink2Description: Digi-Key Listing; ComponentLink2URL: https://www.digikey.com/product-detail/en/nichicon/URZ0J332MHD1TN/493-12072-3-ND/4321215; Tolerance: 20%; Voltage: 6.3V; Price: 0.3914; Device Package: Radial, Can, 16mm
footprint CAP AL TH D16 L7.5 H16.5
pins: 1, 2

## URZ1A102MPD1TD
designator C?, comment 1000uF  (value not drawn)
CAP ALUM 1000UF 20% 10V RADIAL; Part Number: URZ1A102MPD1TD; Manufacturer: Nichicon; TemperatureRange: -55C ~ 105C; Type: Polar; Ripple Current: 450mA @ 120Hz; Value: 1000uF; PartId: 24625; Supplier 1: Digi-Key; Supplier Part Number 1: 493-11938-3-ND; ComponentLink1Description: Datasheet; ComponentLink1URL: http://nichicon-us.com/english/products/pdfs/e-urz.pdf; ComponentLink2Description: Digi-Key Listing; ComponentLink2URL: https://www.digikey.com/product-detail/en/nichicon/URZ1A102MPD1TD/493-11938-3-ND/4321081; Tolerance: 20%; Voltage: 10V; Price: 0.2116; Device Package: Radial, Can, 10mm
footprint CAP AL TH D10 L5 H14.5
pins: 1, 2

## URZ1A222MHD1TO
designator C?, comment 2200uF  (value not drawn)
CAP ALUM 2200UF 20% 10V RADIAL; Part Number: URZ1A222MHD1TO; Manufacturer: Nichicon; TemperatureRange: -55C ~ 105C; Type: Polar; Ripple Current: 690mA @ 120Hz; Value: 2200uF; PartId: 22761; Supplier 1: Digi-Key; Supplier Part Number 1: 493-12080-1-ND; ComponentLink1Description: Datasheet; ComponentLink1URL: http://nichicon-us.com/english/products/pdfs/e-urz.pdf; ComponentLink2Description: Digi-Key Listing; ComponentLink2URL: https://www.digikey.com/product-detail/en/nichicon/URZ1A222MHD1TO/493-12080-1-ND/4320351; Tolerance: 20%; Voltage: 10V; Price: 0; Device Package: Radial, Can, 12.5mm
footprint CAP AL TH D12.5 L5 H16.5
pins: 1, 2

## URZ1C102MHD1TO
designator C?, comment 1000uF  (value not drawn)
CAP ALUM 1000UF 20% 16V RADIAL; Part Number: URZ1C102MHD1TO; Manufacturer: Nichicon; TemperatureRange: -55C ~ 105C; Type: Polar; Ripple Current: 520mA @ 120Hz; Value: 1000uF; PartId: 22686; Supplier 1: Digi-Key; Supplier Part Number 1: 493-12008-1-ND; ComponentLink1Description: Datasheet; ComponentLink1URL: http://nichicon-us.com/english/products/pdfs/e-urz.pdf; ComponentLink2Description: Digi-Key Listing; ComponentLink2URL: https://www.digikey.com/product-detail/en/nichicon/URZ1C102MHD1TO/493-12008-1-ND/4320361; Tolerance: 20%; Voltage: 16V; Price: 0; Device Package: Radial, Can, 12.5mm
footprint CAP AL TH D12.5 L5 H14
pins: 1, 2

## URZ1C222MHD1TN
designator C?, comment 2200uF  (value not drawn)
CAP ALUM 2200UF 20% 16V RADIAL; Part Number: URZ1C222MHD1TN; Manufacturer: Nichicon; TemperatureRange: -55C ~ 105C; Type: Polar; Ripple Current: 830mA @ 120Hz; Value: 2200uF; PartId: 26254; Supplier 1: Digi-Key; Supplier Part Number 1: 493-12227-3-ND; ComponentLink1Description: Datasheet; ComponentLink1URL: http://nichicon-us.com/english/products/pdfs/e-urz.pdf; ComponentLink2Description: Digi-Key Listing; ComponentLink2URL: https://www.digikey.com/product-detail/en/nichicon/URZ1C222MHD1TN/493-12227-3-ND/4321370; Tolerance: 20%; Voltage: 16V; Price: 0.5596; Device Package: Radial, Can, 16mm
footprint CAP AL TH D16 L7.5 H16.5
pins: 1, 2

## URZ1C331MPD1TD
designator C?, comment 330uF  (value not drawn)
CAP ALUM 330UF 20% 16V RADIAL; Part Number: URZ1C331MPD1TD; Manufacturer: Nichicon; TemperatureRange: -55C ~ 105C; Type: Polar; Ripple Current: 240mA @ 120Hz; Value: 330uF; PartId: 24438; Supplier 1: Digi-Key; Supplier Part Number 1: 493-11852-3-ND; ComponentLink1Description: Datasheet; ComponentLink1URL: http://nichicon-us.com/english/products/pdfs/e-urz.pdf; ComponentLink2Description: Digi-Key Listing; ComponentLink2URL: https://www.digikey.com/product-detail/en/nichicon/URZ1C331MPD1TD/493-11852-3-ND/4320995; Tolerance: 20%; Voltage: 16V; Price: 0.1686; Device Package: Radial, Can, 10mm
footprint CAP AL TH D10 L5 H12.5
pins: 1, 2

## URZ1C471MPD1TD
designator C?, comment 470uF  (value not drawn)
CAP ALUM 470UF 20% 16V RADIAL; Part Number: URZ1C471MPD1TD; Manufacturer: Nichicon; TemperatureRange: -55C ~ 105C; Type: Polar; Ripple Current: 290mA @ 120Hz; Value: 470uF; PartId: 24472; Supplier 1: Digi-Key; Supplier Part Number 1: 493-11882-1-ND; ComponentLink1Description: Datasheet; ComponentLink1URL: http://nichicon-us.com/english/products/pdfs/e-urz.pdf; ComponentLink2Description: Digi-Key Listing; ComponentLink2URL: https://www.digikey.com/product-detail/en/nichicon/URZ1C471MPD1TD/493-11882-1-ND/4320369; Tolerance: 20%; Voltage: 16V; Price: 0.6; Device Package: Radial, Can, 10mm
footprint CAP AL TH D10 L5 H12.5
pins: 1, 2

## URZ1E102MHD1TO
designator C?, comment 1000uF  (value not drawn)
CAP ALUM 1000UF 20% 25V RADIAL; Part Number: URZ1E102MHD1TO; Manufacturer: Nichicon; TemperatureRange: -55C ~ 105C; Type: Polar; Ripple Current: 590mA @ 120Hz; Value: 1000uF; PartId: 22746; Supplier 1: Digi-Key; Supplier Part Number 1: 493-12037-1-ND; ComponentLink1Description: Datasheet; ComponentLink1URL: http://nichicon-us.com/english/products/pdfs/e-urz.pdf; ComponentLink2Description: Digi-Key Listing; ComponentLink2URL: https://www.digikey.com/product-detail/en/nichicon/URZ1E102MHD1TO/493-12037-1-ND/4320373; Tolerance: 20%; Voltage: 25V; Price: 0; Device Package: Radial, Can, 12.5mm
footprint CAP AL TH D12.5 L5 H16.5
pins: 1, 2

## URZ1E221MPD1TD
designator C?, comment 220uF  (value not drawn)
CAP ALUM 220UF 20% 25V RADIAL; Part Number: URZ1E221MPD1TD; Manufacturer: Nichicon; TemperatureRange: -55C ~ 105C; Type: Polar; Ripple Current: 220mA @ 120Hz; Value: 220uF; PartId: 24440; Supplier 1: Digi-Key; Supplier Part Number 1: 493-11874-3-ND; ComponentLink1Description: Datasheet; ComponentLink1URL: http://nichicon-us.com/english/products/pdfs/e-urz.pdf; ComponentLink2Description: Digi-Key Listing; ComponentLink2URL: https://www.digikey.com/product-detail/en/nichicon/URZ1E221MPD1TD/493-11874-3-ND/4321017; Tolerance: 20%; Voltage: 25V; Price: 0.1778; Device Package: Radial, Can, 10mm
footprint CAP AL TH D10 L5 H12.5
pins: 1, 2

## URZ1E331MPD1TD
designator C?, comment 330uF  (value not drawn)
CAP ALUM 330UF 20% 25V RADIAL; Part Number: URZ1E331MPD1TD; Manufacturer: Nichicon; TemperatureRange: -55C ~ 105C; Type: Polar; Ripple Current: 270mA @ 120Hz; Value: 330uF; PartId: 24439; Supplier 1: Digi-Key; Supplier Part Number 1: 493-11854-3-ND; ComponentLink1Description: Datasheet; ComponentLink1URL: http://nichicon-us.com/english/products/pdfs/e-urz.pdf; ComponentLink2Description: Digi-Key Listing; ComponentLink2URL: https://www.digikey.com/product-detail/en/nichicon/URZ1E331MPD1TD/493-11854-3-ND/4320997; Tolerance: 20%; Voltage: 25V; Price: 0.169; Device Package: Radial, Can, 10mm
footprint CAP AL TH D10 L5 H12.5
pins: 1, 2

## URZ1H101MPD1TD
designator C?, comment 100uF  (value not drawn)
CAP ALUM 100UF 20% 50V RADIAL; Part Number: URZ1H101MPD1TD; Manufacturer: Nichicon; TemperatureRange: -55C ~ 105C; Type: Polar; Ripple Current: 170mA @ 120Hz; Value: 100uF; PartId: 24441; Supplier 1: Digi-Key; Supplier Part Number 1: 493-11877-3-ND; ComponentLink1Description: Datasheet; ComponentLink1URL: http://nichicon-us.com/english/products/pdfs/e-urz.pdf; ComponentLink2Description: Digi-Key Listing; ComponentLink2URL: https://www.digikey.com/product-detail/en/nichicon/URZ1H101MPD1TD/493-11877-3-ND/4321020; Tolerance: 20%; Voltage: 50V; Price: 0.1808; Device Package: Radial, Can, 10mm
footprint CAP AL TH D10 L5 H12.5
pins: 1, 2

## URZ1H331MHD1TO
designator C?, comment 330uF  (value not drawn)
CAP ALUM 330UF 20% 50V RADIAL; Part Number: URZ1H331MHD1TO; Manufacturer: Nichicon; TemperatureRange: -55C ~ 105C; Type: Polar; Ripple Current: 370mA @ 120Hz; Value: 330uF; PartId: 22688; Supplier 1: Digi-Key; Supplier Part Number 1: 493-12021-1-ND; ComponentLink1Description: Datasheet; ComponentLink1URL: http://nichicon-us.com/english/products/pdfs/e-urz.pdf; ComponentLink2Description: Digi-Key Listing; ComponentLink2URL: https://www.digikey.com/product-detail/en/nichicon/URZ1H331MHD1TO/493-12021-1-ND/4320393; Tolerance: 20%; Voltage: 50V; Price: 0; Device Package: Radial, Can, 12.5mm
footprint CAP AL TH D12.5 L5 H14
pins: 1, 2

## URZ1H471MHD1TN
designator C?, comment 470uF  (value not drawn)
CAP ALUM 470UF 20% 50V RADIAL; Part Number: URZ1H471MHD1TN; Manufacturer: Nichicon; TemperatureRange: -55C ~ 105C; Type: Polar; Ripple Current: 540mA @ 120Hz; Value: 470uF; PartId: 26229; Supplier 1: Digi-Key; Supplier Part Number 1: 493-12076-3-ND; ComponentLink1Description: Datasheet; ComponentLink1URL: http://nichicon-us.com/english/products/pdfs/e-urz.pdf; ComponentLink2Description: Digi-Key Listing; ComponentLink2URL: https://www.digikey.com/product-detail/en/nichicon/URZ1H471MHD1TN/493-12076-3-ND/4321219; Tolerance: 20%; Voltage: 50V; Price: 0.3853; Device Package: Radial, Can, 16mm
footprint CAP AL TH D16 L7.5 H16.5
pins: 1, 2